# EAGLE library part XRP6840BILB-F (library Exar_By_element14_Batch_1)
4.3A supercapacitor Flash LED driver with I2C
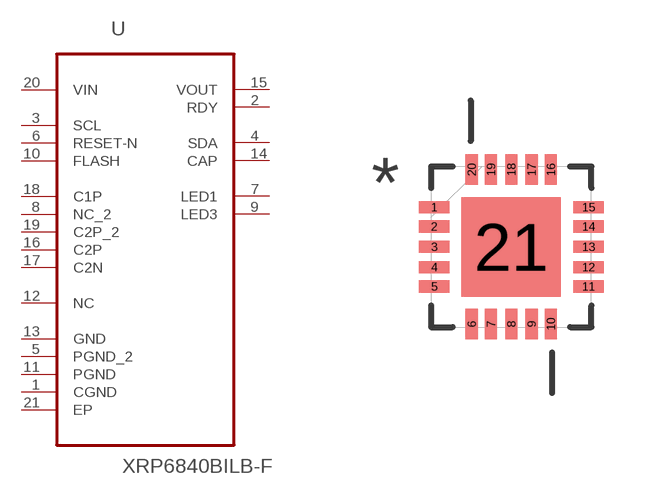
[diagram p97: symbol with the pads of QFN50P400X400X80-21N; footprint QFN50P400X400X80-21N]

Designator prefix U

## XRP6840BILB-F (MPN: XRP6840BILB-F; OC_FARNELL: 1799154; OC_NEWARK: 60R5468; PACKAGE: TQFN-20; SUPPLIER: Exar)  [QFN50P400X400X80-21N]
1  CGND  pas
2  RDY  out
3  SCL  in
4  SDA
5  PGND_2  pas
6  RESET-N  in
7  LED1  out
8  NC_2  nc
9  LED3  out
10  FLASH  in
11  PGND  pas
12  NC  nc
13  GND  pas
14  CAP  pas
15  VOUT  out
16  C2P  pas
17  C2N  pas
18  C1P  pas
19  C2P_2  pas
20  VIN  pwr
21  EP  pas

## Footprint QFN50P400X400X80-21N (pad centres in mm)
smd 0.762 x 0.305: 1 -1.93,0.991; 2 -1.93,0.508; 3 -1.93,0; 4 -1.93,-0.508; 5 -1.93,-0.991; 11 1.93,-0.991; 12 1.93,-0.508; 13 1.93,0; 14 1.93,0.508; 15 1.93,0.991
smd 0.305 x 0.762: 6 -0.991,-1.93; 7 -0.508,-1.93; 8 0,-1.93; 9 0.508,-1.93; 10 0.991,-1.93; 16 0.991,1.93; 17 0.508,1.93; 18 0,1.93; 19 -0.508,1.93; 20 -0.991,1.93
smd 2.489 x 2.489: 21 0,0